# Altium integrated library Device.IntLib: 23 symbols
Pins are listed as number, name and electrical type; pins without a type are passive.

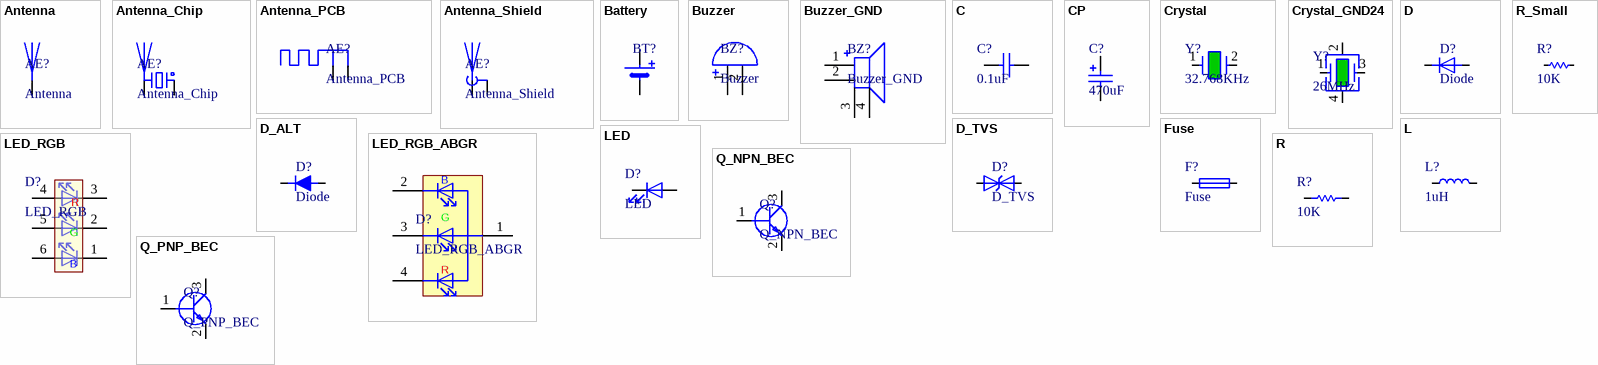
[diagram p0: symbols Antenna to R_Small]

## Antenna
designator AE?
pins: 1

## Antenna_Chip
designator AE?
footprint Texas_SWRA117D_2.4GHz_Right
footprint Texas_SWRA117D_2.4GHz_LEFT
footprint ANT_SMT_5.1x2.0x1.2mm (Chip Capacitor, 2-Leads, Body 5.10x2.00mm, IPC Medium Density)
pins: 1, 2

## Antenna_PCB
designator AE?
footprint Texas_SWRA117D_2.4GHz_LEFT
footprint Texas_SWRA117D_2.4GHz_Right
pins: 1 ANT, 2 GND

## Antenna_Shield
designator AE?
pins: 1, 2

## Battery
designator BT?  (value not drawn)
Single battery
footprint BatteryHolder_CR1220_SMT_Horizontal
pins: 1 +, 2 -

## Buzzer
designator BZ?
pins: 1, 2

## Buzzer_GND
designator BZ?
footprint MLT-8530
pins: 1, 2, 3, 4

## C
designator C?, comment 0.1uF
footprint C_0805_2012Metric (Chip Capacitor, 2-Leads, Body 2.00x1.25mm, IPC Medium Density)
footprint C_0603_1608Metric (Chip Capacitor, 2-Leads, Body 1.60x0.80mm, IPC Medium Density)
footprint C_0402_1005Metric (Chip Capacitor, 2-Leads, Body 1.00x0.50mm, IPC Medium Density)
footprint C_1206_3216Metric (Chip Capacitor, 2-Leads, Body 3.20x1.60mm, IPC Medium Density)
pins: 1, 2

## CP
designator C?, comment 470uF
Polarized Capacitor (Radial)
footprint CP_Radial_D8.0mm_P3.5mm
pins: 1, 2
1 alternate drawing of the same symbol

## Crystal
designator Y?, comment 32.768KHz
Two pin crystal
footprint Crystal_SMD_3215_2Pin_3.2x1.5mm
pins: 1, 2

## Crystal_GND24
designator Y?, comment 26MHz
Four pin crystal, GND on pins 2 and 4
footprint Crystal_SMD_SeikoEpson_FA238-4Pin_3.2x2.5mm
pins: 1, 2, 3, 4

## D
designator D?, comment Diode
pins: 1 K, 2 A

## D_ALT
designator D?, comment Diode
footprint D_SOD-523 (SODFL, 2-Leads, Body 0.80x1.60mm, IPC Medium Density)
pins: 1 K, 2 A

## D_TVS
designator D?
Bidirectional transient-voltage-suppression diode
footprint D_SOD-523 (SODFL, 2-Leads, Body 0.80x1.60mm, IPC Medium Density)
pins: 1 K, 2 A

## Fuse
designator F?
footprint Fuse_0402_1005Metric (Chip Resistor, 2-Leads, Body 1.00x0.50mm, IPC Medium Density)
footprint Fuse_0603_1608Metric (Chip Resistor, 2-Leads, Body 1.60x0.80mm, IPC Medium Density)
footprint Fuse_0805_2012Metric (Chip Resistor, 2-Leads, Body 2.00x1.25mm, IPC Medium Density)
footprint Fuse_1206_3216Metric (Chip Resistor, 2-Leads, Body 3.20x1.60mm, IPC Medium Density)
pins: 1, 2

## L
designator L?, comment 1uH
footprint L_0402_1005Metric (Chip Inductor, 2-Leads, Body 1.00x0.50mm, IPC Medium Density)
footprint L_0603_1608Metric (Chip Inductor, 2-Leads, Body 1.60x0.80mm, IPC Medium Density)
footprint L_0805_2012Metric (Chip Inductor, 2-Leads, Body 2.00x1.25mm, IPC Medium Density)
footprint L_SUNLORD_SWPA3015 (Molded Inductor, 2-Leads, Body 3.00x3.00mm, IPC Medium Density)
footprint L_Sunlord_SWPA5040S (Precision Wire Wound Inductor, 2-Leads, Body 5.00x5.00mm, IPC Medium Density)
pins: 1, 2

## LED
designator D?
Light emitting diode
footprint LED_0603_1608Metric (Chip Resistor, 2-Leads, Body 1.60x0.80mm, IPC Medium Density)
pins: 1 K, 2 A

## LED_RGB
designator D?
RGB LED, 6 pin package
footprint LED_RGB_5050-6
pins: 1 K, 2 K, 3 K, 4 A, 5 A, 6 A
text: R; G; B

## LED_RGB_ABGR
designator D?
RGB LED, anode/blue/red/green
pins: 1 A, 2 B, 3 G, 4 R

## Q_NPN_BEC
designator Q?
NPN transistor, base/emitter/collector
footprint SOT-23 (SOT23, 3-Leads, Body 2.90x2.45mm, Pitch 0.95mm, IPC Medium Density)
pins: 1 B, 2 E, 3 C

## Q_PNP_BEC
designator Q?
PNP transistor, base/emitter/collector
footprint SOT-23 (SOT23, 3-Leads, Body 2.90x2.45mm, Pitch 0.95mm, IPC Medium Density)
pins: 1 B, 2 E, 3 C

## R
designator R?, comment 10K
footprint R_0402_1005Metric (Chip Resistor, 2-Leads, Body 1.00x0.50mm, IPC Medium Density)
footprint R_0603_1608Metric (Chip Resistor, 2-Leads, Body 1.60x0.80mm, IPC Medium Density)
footprint R_0805_2012Metric (Chip Resistor, 2-Leads, Body 2.00x1.25mm, IPC Medium Density)
pins: 1, 2

## R_Small
designator R?, comment 10K
R small package
footprint R_0402_1005Metric (Chip Resistor, 2-Leads, Body 1.00x0.50mm, IPC Medium Density)
footprint R_0603_1608Metric (Chip Resistor, 2-Leads, Body 1.60x0.80mm, IPC Medium Density)
footprint R_0805_2012Metric (Chip Resistor, 2-Leads, Body 2.00x1.25mm, IPC Medium Density)
pins: 1, 2